# Altium footprint library Connector.PcbLib: 170 footprints (part 4 of 11)
Each footprint in its own frame and in the unit in brackets; x right, y up, seen from the top. Pads: shape width x height; smd on the part's side, far side on the other; paste and mask are expansions set on the pad; w line width, h text height; cw(c..) or ccw(c..) is an arc to the next point about the centre after c.
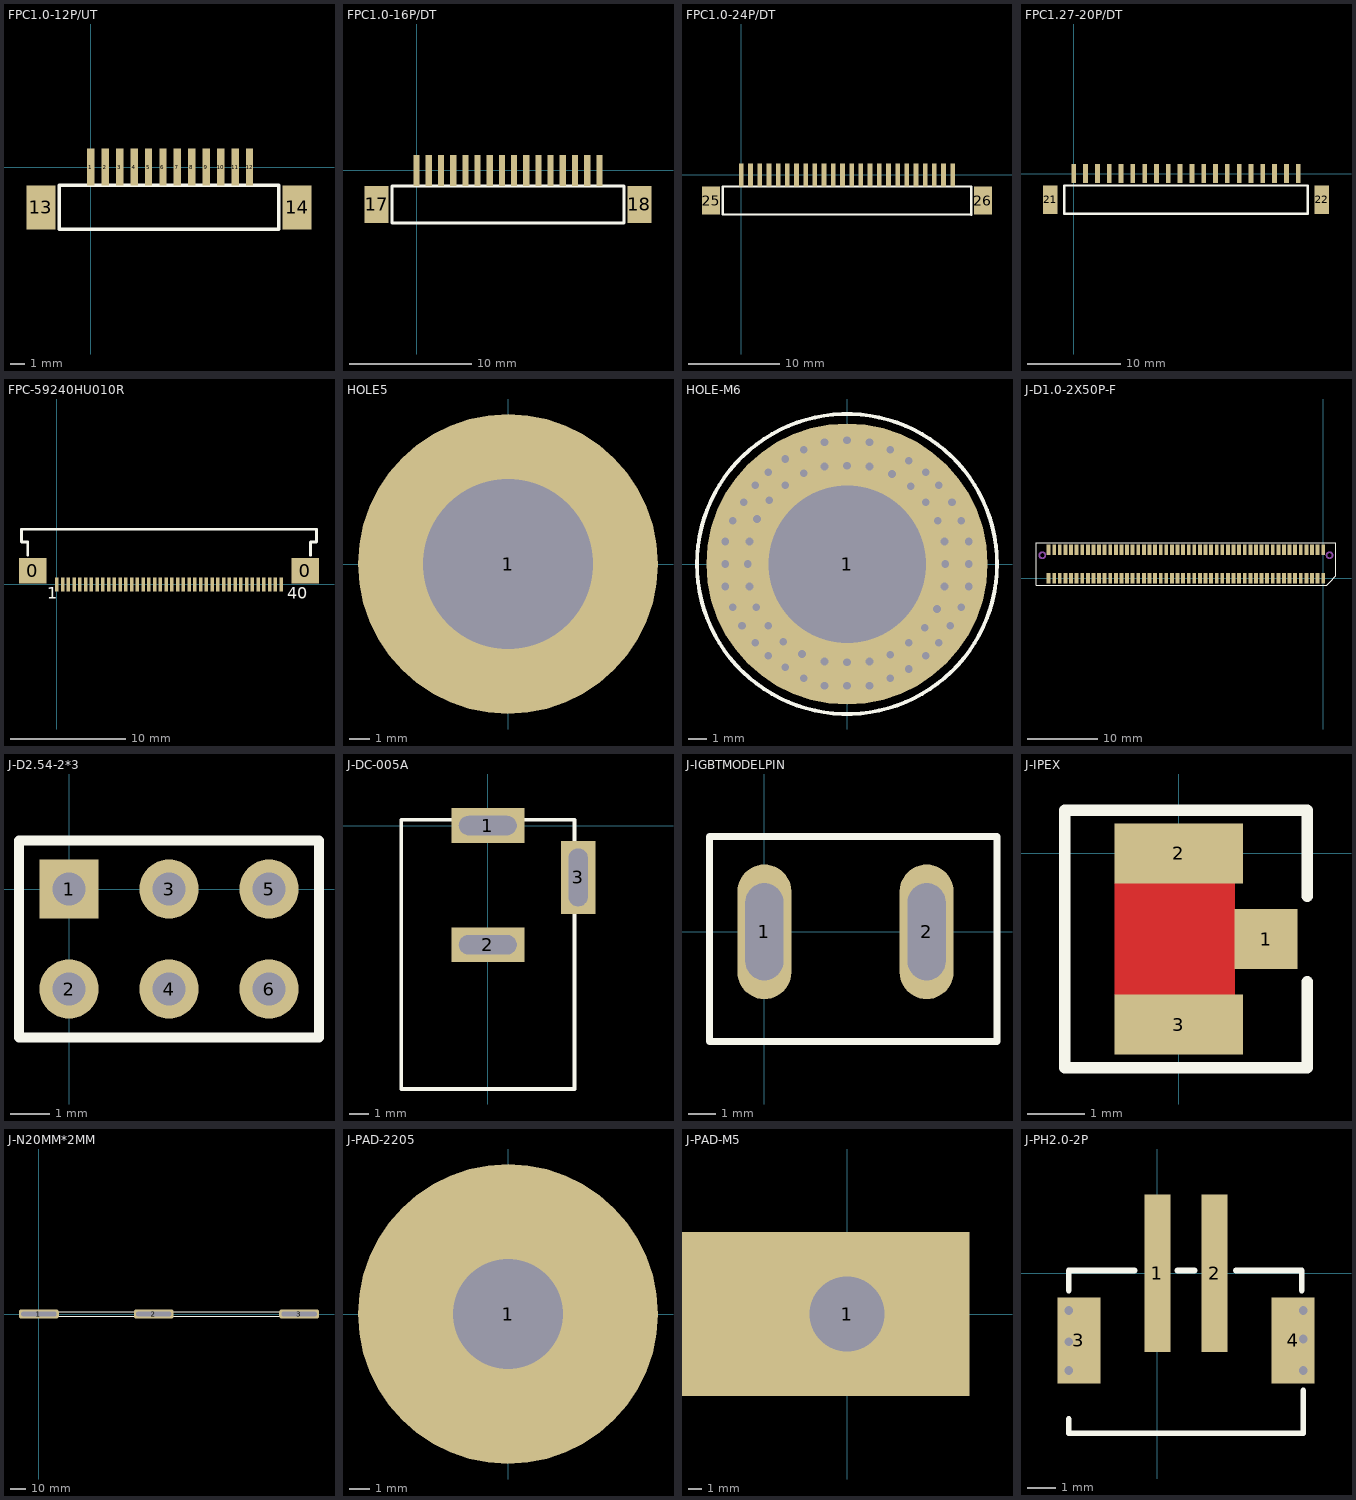
[diagram p3: the footprints below, top view; thin cyan lines are the x and y axes]

## FPC1.0-12P/UT [mil]
pads (14):
  rect 20x100 smd: 1(0,0) 2(39.37,0) 3(78.74,0) 4(118.11,0) 5(157.48,0) 6(196.85,0) 7(236.22,0) 8(275.59,0) 9(314.96,0) 10(354.33,0) 11(393.7,0) 12(433.07,0)
  rect 78.74x120 smd: 13(-136.1,-110) 14(562.62,-110)
Top Overlay:
  lines w10: -86.1,-170 512.64,-170 512.64,-50 -86.1,-50 -86.1,-170
3D body: height 39.37, standoff 0, extent -86.1,-170 515,-55

## FPC1.0-16P/DT [mil]
pads (18):
  rect 20x100 smd: 1(0,0) 2(39.37,0) 3(78.74,0) 4(118.11,0) 5(157.48,0) 6(196.85,0) 7(236.22,0) 8(275.59,0) 9(314.96,0) 10(354.33,0) 11(393.7,0) 12(433.07,0) 13(472.44,0) 14(511.81,0) 15(551.18,0) 16(590.55,0)
  rect 78.74x120 smd: 17(-129.45,-110) 18(720.1,-110)
Top Overlay:
  lines w10: 670.1,-120 670.1,-100 ; -79.45,-170 670.1,-170 670.1,-50 -79.45,-50 -79.45,-170
3D body: height 39.37, standoff 0, extent -80,-170 665,-55

## FPC1.0-24P/DT [mil]
pads (26):
  rect 20x100 smd: 1(0,0) 2(39.37,0) 3(78.74,0) 4(118.11,0) 5(157.48,0) 6(196.85,0) 7(236.22,0) 8(275.59,0) 9(314.96,0) 10(354.33,0) 11(393.7,0) 12(433.07,0) 13(472.44,0) 14(511.81,0) 15(551.18,0) 16(590.55,0) 17(629.92,0) 18(669.29,0) 19(708.66,0) 20(748.03,0) 21(787.4,0) 22(826.77,0) 23(866.14,0) 24(905.51,0)
  rect 78.74x120 smd: 25(-130,-110) 26(1035,-110)
Top Overlay:
  lines w10: -80.14,-169.53 -80.14,-49.53 985,-50 985,-170 -80.14,-169.53
3D body: height 39.37, standoff 0, extent -80,-165 985,-50

## FPC1.27-20P/DT [mil]
pads (22):
  rect 20x80 smd: 1(0,0) 2(50,0) 3(100,0) 4(150,0) 5(200,0) 6(250,0) 7(300,0) 8(350,0) 9(400,0) 10(450,0) 11(500,0) 12(550,0) 13(600,0) 14(650,0) 15(700,0) 16(750,0) 17(800,0) 18(850,0) 19(900,0) 20(950,0)
  rect 60x120 smd: 21(-100,-110) 22(1050,-110)
Top Overlay:
  lines w10: -40,-170 990,-170 990,-50 -40,-50 -40,-170
3D body: height 39.37, standoff 0, extent -40,-170 990,-55

## FPC-59240HU010R [mm]
pads (42):
  rect 2.4x2.2 smd: 0(-2.1,1.2) 0(21.6,1.2)
  rect 0.3x1.2 smd: 1(0,0) 2(0.5,0) 3(1,0) 4(1.5,0) 5(2,0) 6(2.5,0) 7(3,0) 8(3.5,0) 9(4,0) 10(4.5,0) 11(5,0) 12(5.5,0) 13(6,0) 14(6.5,0) 15(7,0) 16(7.5,0) 17(8,0) 18(8.5,0) 19(9,0) 20(9.5,0) 21(10,0) 22(10.5,0) 23(11,0) 24(11.5,0) 25(12,0) 26(12.5,0) 27(13,0) 28(13.5,0) 29(14,0) 30(14.5,0) 31(15,0) 32(15.5,0) 33(16,0) 34(16.5,0) 35(17,0) 36(17.5,0) 37(18,0) 38(18.5,0) 39(19,0) 40(19.5,0)
Top Overlay:
  lines w0.254: -2.54,2.54 -2.54,3.7 -3.1,3.7 -3.1,4.8 22.6,4.8 22.6,3.7 22.047,3.7 22.047,2.54
  text "1" at -0.864,-1.245 h1.02
  text "40" at 20.041,-1.245 h1.02
3D body: height 1, standoff 0, extent -3.1,0.889 22.606,4.8

## HOLE5 [mm]
pads (1):
  round 15 hole 8.5: 1(0,0)

## HOLE-M6 [mm] "HOLE5"
pads (1):
  round 15 hole 8.4: 1(0,0)
via -5.3,0 diameter 0.711 hole 0.406
via -6.5,0 diameter 0.711 hole 0.406
via 0,-5.25 diameter 0.711 hole 0.406
via 0,-6.5 diameter 0.711 hole 0.406
via 5.25,0 diameter 0.711 hole 0.406
via 6.5,0 diameter 0.711 hole 0.406
via -1.2,5.2 diameter 0.711 hole 0.406
via -2.3,4.85 diameter 0.711 hole 0.406
via -3.3,4.2 diameter 0.711 hole 0.406
via -4.15,3.4 diameter 0.711 hole 0.406
via -4.8,2.4 diameter 0.711 hole 0.406
via -1.2,6.5 diameter 0.711 hole 0.406
via -2.3,6.1 diameter 0.711 hole 0.406
via -3.3,5.6 diameter 0.711 hole 0.406
via -4.2,4.9 diameter 0.711 hole 0.406
via -4.9,4.2 diameter 0.711 hole 0.406
via -5.5,3.3 diameter 0.711 hole 0.406
via -6.1,2.3 diameter 0.711 hole 0.406
via -5.2,1.2 diameter 0.711 hole 0.406
via -6.5,1.2 diameter 0.711 hole 0.406
via 0,5.25 diameter 0.711 hole 0.406
via 0,6.6 diameter 0.711 hole 0.406
via 1.2,6.5 diameter 0.711 hole 0.406
via 1.2,5.2 diameter 0.711 hole 0.406
via 2.3,6.1 diameter 0.711 hole 0.406
via 3.3,5.5 diameter 0.711 hole 0.406
via 4.2,4.9 diameter 0.711 hole 0.406
via 4.9,4.2 diameter 0.711 hole 0.406
via 5.6,3.3 diameter 0.711 hole 0.406
via 6.1,2.3 diameter 0.711 hole 0.406
via 6.5,1.2 diameter 0.711 hole 0.406
via 2.4,4.8 diameter 0.711 hole 0.406
via 3.4,4.15 diameter 0.711 hole 0.406
via 4.2,3.3 diameter 0.711 hole 0.406
via 4.85,2.3 diameter 0.711 hole 0.406
via 5.2,1.2 diameter 0.711 hole 0.406
via -1.2,-6.5 diameter 0.711 hole 0.406
via -1.2,-5.2 diameter 0.711 hole 0.406
via -2.3,-6.1 diameter 0.711 hole 0.406
via -3.3,-5.5 diameter 0.711 hole 0.406
via -4.2,-4.9 diameter 0.711 hole 0.406
via -4.9,-4.2 diameter 0.711 hole 0.406
via -5.6,-3.3 diameter 0.711 hole 0.406
via -6.1,-2.3 diameter 0.711 hole 0.406
via -6.5,-1.2 diameter 0.711 hole 0.406
via -2.4,-4.8 diameter 0.711 hole 0.406
via -3.4,-4.15 diameter 0.711 hole 0.406
via -4.2,-3.3 diameter 0.711 hole 0.406
via -4.85,-2.3 diameter 0.711 hole 0.406
via -5.2,-1.2 diameter 0.711 hole 0.406
via 6.5,-1.2 diameter 0.711 hole 0.406
via 5.2,-1.2 diameter 0.711 hole 0.406
via 6.1,-2.3 diameter 0.711 hole 0.406
via 5.5,-3.3 diameter 0.711 hole 0.406
via 4.9,-4.2 diameter 0.711 hole 0.406
via 4.2,-4.9 diameter 0.711 hole 0.406
via 3.3,-5.6 diameter 0.711 hole 0.406
via 2.3,-6.1 diameter 0.711 hole 0.406
via 1.2,-6.5 diameter 0.711 hole 0.406
via 4.8,-2.4 diameter 0.711 hole 0.406
via 4.15,-3.4 diameter 0.711 hole 0.406
via 3.3,-4.2 diameter 0.711 hole 0.406
via 2.3,-4.85 diameter 0.711 hole 0.406
via 1.2,-5.2 diameter 0.711 hole 0.406
Top Overlay:
  circle w0.203: c0,0 r8
3D body: height 10, standoff 0, extent -3.984,-3.937 3.984,4.047

## J-D1.0-2X50P-F [mm]
pads (100):
  rect 0.55x1.5 smd: 1(0,0) 2(0,4) 3(-0.8,0) 4(-0.8,4) 5(-1.6,0) 6(-1.6,4) 7(-2.4,0) 8(-2.4,4) 9(-3.2,0) 10(-3.2,4) 11(-4,0) 12(-4,4) 13(-4.8,0) 14(-4.8,4) 15(-5.6,0) 16(-5.6,4) 17(-6.4,0) 18(-6.4,4) 19(-7.2,0) 20(-7.2,4) 21(-8,0) 22(-8,4) 23(-8.8,0) 24(-8.8,4) 25(-9.6,0) 26(-9.6,4) 27(-10.4,0) 28(-10.4,4) 29(-11.2,0) 30(-11.2,4) 31(-12,0) 32(-12,4) 33(-12.8,0) 34(-12.8,4) 35(-13.6,0) 36(-13.6,4) 37(-14.4,0) 38(-14.4,4) 39(-15.2,0) 40(-15.2,4) 41(-16,0) 42(-16,4) 43(-16.8,0) 44(-16.8,4) 45(-17.6,0) 46(-17.6,4) 47(-18.4,0) 48(-18.4,4) 49(-19.2,0) 50(-19.2,4) 51(-20,0) 52(-20,4) 53(-20.8,0) 54(-20.8,4) 55(-21.6,0) 56(-21.6,4) 57(-22.4,0) 58(-22.4,4) 59(-23.2,0) 60(-23.2,4) 61(-24,0) 62(-24,4) 63(-24.8,0) 64(-24.8,4) 65(-25.6,0) 66(-25.6,4) 67(-26.4,0) 68(-26.4,4) 69(-27.2,0) 70(-27.2,4) 71(-28,0) 72(-28,4) 73(-28.8,0) 74(-28.8,4) 75(-29.6,0) 76(-29.6,4) 77(-30.4,0) 78(-30.4,4) 79(-31.2,0) 80(-31.2,4) 81(-32,0) 82(-32,4) 83(-32.8,0) 84(-32.8,4) 85(-33.6,0) 86(-33.6,4) 87(-34.4,0) 88(-34.4,4) 89(-35.2,0) 90(-35.2,4) 91(-36,0) 92(-36,4) 93(-36.8,0) 94(-36.8,4) 95(-37.6,0) 96(-37.6,4) 97(-38.4,0) 98(-38.4,4) 99(-39.2,0) 100(-39.2,4)
Top Overlay:
  lines w0.1: -41,5 1.829,5 ; -40.989,5 -40.989,1.2 -40.989,-1 0.5,-1 1,-0.5 ; 1.8,5 1.8,0.308 1.804,0.304 1,-0.5 ; 1,-0.5 1,-0.5
Mechanical 1:
  lines w0.254: -39.684,3.336 ccw(c-40.1,3.25) -39.679,3.309 ; 1.316,3.336 ccw(c0.9,3.25) 1.321,3.309

## J-D2.54-2*3 [mm]
pads (6):
  rect 1.5x1.5 hole 0.838: 1(0,0)
  round 1.5 hole 0.838: 2(0,-2.54) 3(2.54,0) 4(2.54,-2.54) 5(5.08,0) 6(5.08,-2.54)
Top Overlay:
  lines w0.254: -1.27,-3.77 -1.27,1.23 6.35,1.23 6.35,-3.77 -1.27,-3.77
3D body: height 10, standoff -4, extent -0.398,-0.399 0.399,0.399
3D body: height 10, standoff -4, extent 2.142,-0.399 2.939,0.399
3D body: height 10, standoff -4, extent 4.682,-0.399 5.479,0.399
3D body: height 10, standoff -4, extent -0.398,-2.939 0.399,-2.141
3D body: height 10, standoff -4, extent 2.142,-2.939 2.939,-2.141
3D body: height 10, standoff -4, extent 4.682,-2.939 5.479,-2.141
3D body: height 2.54, standoff 0, extent -1.27,-3.817 6.477,1.263

## J-DC-005A [mm]
pads (3):
  rect 3.8x1.8 hole 1 slot 3 at 0 deg: 1(0,0) 2(0,-6.2)
  rect 1.8x3.8 hole 1 slot 3 at 90 deg: 3(4.7,-2.7)
Top Overlay:
  lines w0.2: -4.5,-13.7 -4.5,0.3 4.5,0.3 4.5,-13.7 -4.5,-13.7
3D body "dc005a-2.stp": height 11, standoff -4, extent -4.547,-13.744 5.053,0.356

## J-IGBTMODELPIN [mm]
pads (2):
  oval 2x5 hole 1.4 slot 3.6 at 90 deg: 1(0,0) 2(6.024,0)
Top Overlay:
  lines w0.254: -2.033,-4.077 -2.033,3.543 8.635,3.543 8.635,-4.077 -2.033,-4.077
Mechanical 1:
  lines w0.3: -0.5,-1.65 0.5,-1.65 0.5,1.65 -0.5,1.65 -0.5,-1.65 ; 5.524,-1.65 6.524,-1.65 6.524,1.65 5.524,1.65 5.524,-1.65

## J-IPEX [mm]
pads (3):
  rect 1.1x1.05 smd: 1(1.525,-1.5)
  rect 2.25x1.05 smd: 2(0,0) 3(0,-3)
Top Layer:
  pour cut-out: -1.125,-0.525 -1.125,-2.475 0.975,-2.475 0.975,-0.525
Top Overlay:
  lines w0.2: 2.25,-2.25 2.25,-3.75 1.5,-3.75 -2,-3.75 -2,0.75 -1.5,0.75 1.5,0.75 2.25,0.75 2.25,-0.75

## J-N20MM*2MM [mm]
pads (3):
  rrect50% 26x6 hole 3 slot 23 at 0 deg: 1(0,0) 2(75,0) 3(170,0)
Top Overlay:
  lines w0.5: -10,0 -10,1.5 ; -10,1.5 180,1.5 180,-1.5 -10,-1.5 -10,1.5
3D body: height 25, standoff 5, extent 160,-1.5 180,1.5
3D body: height 0, standoff -4, extent 65,-1.5 85,1.5
3D body: height 25, standoff 5, extent -10,-1.5 180,1.5
3D body: height 0, standoff -4, extent -10,-1.5 10,1.5
3D body: height 5, standoff 0, extent -10,-1.5 12.5,1.5
3D body: height 5, standoff 0, extent 62.5,-1.5 87.5,1.5
3D body: height 5, standoff 0, extent 157.5,-1.5 180,1.5

## J-PAD-2205 [mm]
pads (1):
  round 15 hole 5.5: 1(0,0)

## J-PAD-M5 [mm]
pads (1):
  rect 22x12 hole 5.5 copper offset -2,0: 1(0,0)

## J-PH2.0-2P [mm]
pads (4):
  rect 0.9x5.5 smd: 1(0,0) 2(2,0)
  rect 1.5x3 smd: 3(-2.75,-2.35) 4(4.75,-2.35)
via -3.1,-2.4 diameter 0.508 hole 0.305
via -3.1,-3.4 diameter 0.508 hole 0.305
via -3.1,-1.3 diameter 0.508 hole 0.305
via 5.1,-1.3 diameter 0.508 hole 0.305
via 5.1,-3.4 diameter 0.508 hole 0.305
via 5.1,-2.3 diameter 0.508 hole 0.305
Top Overlay:
  lines w0: 5.1,-0.6 5.1,0.1
  lines w0.2: -3.1,-5.1 -3.1,-5.6 5.1,-5.6 5.1,-4.1 ; -3.1,-0.6 -3.1,0.1 -0.8,0.1 ; 2.75,0.1 5.05,0.1 5.05,-0.6 ; 0.7,0.1 1.3,0.1 0.7,0.1